# EAGLE library part AD1938 (library SpecialIC)
4ADC/8DAC 24bit 192khz audio codec from Analog Devices
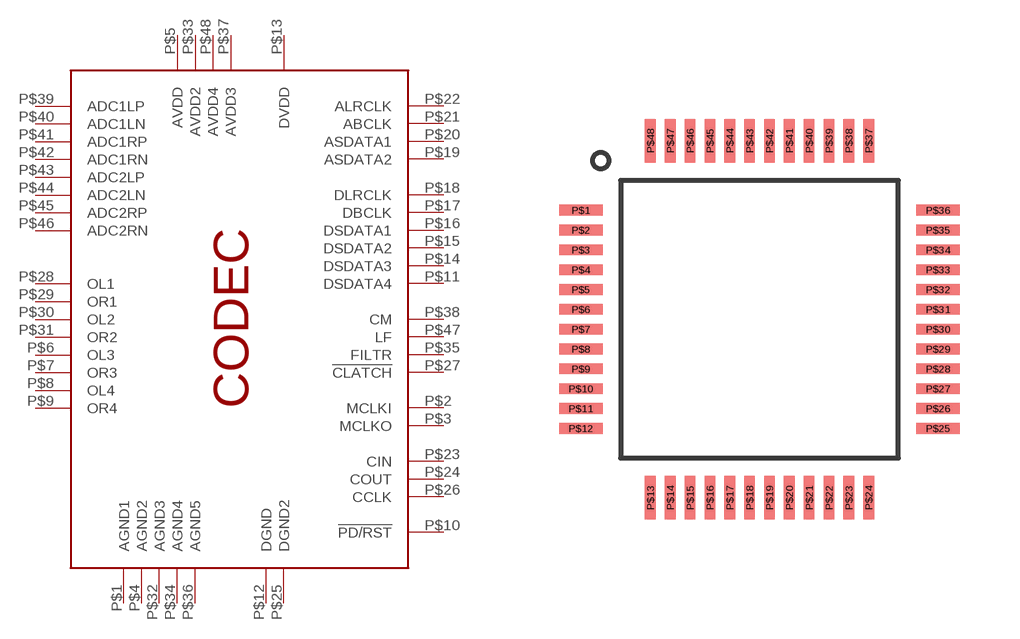
[diagram p3: symbol with the pads of LQFP_48; footprint LQFP_48]

Designator prefix -

## AD1938 (PLACE_PART: YES)  [LQFP_48]
P$1  AGND1
P$2  MCLKI
P$3  MCLKO
P$4  AGND2
P$5  AVDD
P$6  OL3
P$7  OR3
P$8  OL4
P$9  OR4
P$10  !PD/RST
P$11  DSDATA4
P$12  DGND
P$13  DVDD
P$14  DSDATA3
P$15  DSDATA2
P$16  DSDATA1
P$17  DBCLK
P$18  DLRCLK
P$19  ASDATA2
P$20  ASDATA1
P$21  ABCLK
P$22  ALRCLK
P$23  CIN
P$24  COUT
P$25  DGND2
P$26  CCLK
P$27  !CLATCH
P$28  OL1
P$29  OR1
P$30  OL2
P$31  OR2
P$32  AGND3
P$33  AVDD2
P$34  AGND4
P$35  FILTR
P$36  AGND5
P$37  AVDD3
P$38  CM
P$39  ADC1LP
P$40  ADC1LN
P$41  ADC1RP
P$42  ADC1RN
P$43  ADC2LP
P$44  ADC2LN
P$45  ADC2RP
P$46  ADC2RN
P$47  LF
P$48  AVDD4

## Footprint LQFP_48 (pad centres in mm)
smd 1.1 x 0.27: P$1 -4.5,2.75; P$2 -4.5,2.25; P$3 -4.5,1.75; P$4 -4.5,1.25; P$5 -4.5,0.75; P$6 -4.5,0.25; P$7 -4.5,-0.25; P$8 -4.5,-0.75; P$9 -4.5,-1.25; P$10 -4.5,-1.75; P$11 -4.5,-2.25; P$12 -4.5,-2.75; P$25 4.5,-2.75; P$26 4.5,-2.25; P$27 4.5,-1.75; P$28 4.5,-1.25; P$29 4.5,-0.75; P$30 4.5,-0.25; P$31 4.5,0.25; P$32 4.5,0.75; P$33 4.5,1.25; P$34 4.5,1.75; P$35 4.5,2.25; P$36 4.5,2.75
smd 0.27 x 1.1: P$13 -2.75,-4.5; P$14 -2.25,-4.5; P$15 -1.75,-4.5; P$16 -1.25,-4.5; P$17 -0.75,-4.5; P$18 -0.25,-4.5; P$19 0.25,-4.5; P$20 0.75,-4.5; P$21 1.25,-4.5; P$22 1.75,-4.5; P$23 2.25,-4.5; P$24 2.75,-4.5; P$37 2.75,4.5; P$38 2.25,4.5; P$39 1.75,4.5; P$40 1.25,4.5; P$41 0.75,4.5; P$42 0.25,4.5; P$43 -0.25,4.5; P$44 -0.75,4.5; P$45 -1.25,4.5; P$46 -1.75,4.5; P$47 -2.25,4.5; P$48 -2.75,4.5